# Altium schematic symbol library Transistors.SchLib: 30 symbols
Pins are listed as number, name and electrical type; pins without a type are passive.

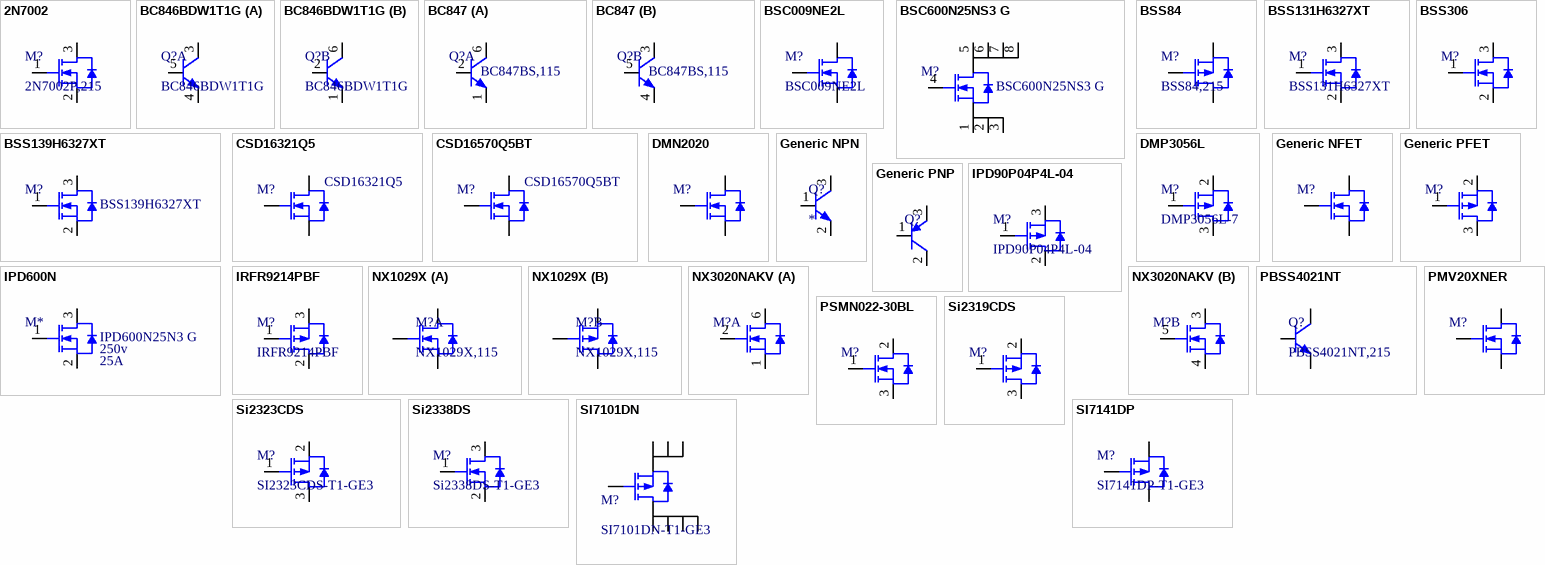
[diagram p0: symbols 2N7002 to SI7141DP]

## 2N7002
designator M?, comment 2N7002P,215
NFET_SINGLE_360mA_60V; LOAD: NL; MFG: NXP; VDS_MAX: 60v; I_MAX: 360mA; VGS_MAX: 20v; P_MAX: *; RDS_ON: *; MFG_PN: 2N7002P,215
footprint SOT23-3M
pins: 1 GATE, 2 SOURCE, 3 DRAIN

## BC846BDW1T1G
designator Q?
BJT, Dual NPN, 65v, 100mA; MFG: ON Semiconductor; VCBO: 80v; MFG_PN: BC846BDW1T1G; CURRENT: 100mA; VCEO: 65V
footprint SC70
part A pins: 3 E1, 4 C1, 5 B1
part B pins: 1 C2, 2 B2, 6 E2

## BC847
designator Q?, comment BC847BS,115
NPN_DUAL_100mA; MFG: NXP; Imax: 100mA; VCE_MAX: 45v; Load: NL; MFG_PN: BC847BS,115
footprint SOT363
part A pins: 1 C, 2 B, 6 E
part B pins: 3 E, 4 C, 5 B

## BSC009NE2L
designator M?
NFET_SINGLE_100A_25v; LOAD: NL; MFG: INFINEON; VDS_MAX: 25v; I_MAX: 100A; VGS_MAX: 16; P_MAX: 74W; RDS_ON: 1.25m; MFG_PN: BSC009NE2LS5ATMA1
footprint PowerPAK-SO8
pins: 1 SOURCE, 2 SOURCE, 3 SOURCE, 4 GATE, 5 DRAIN, 6 DRAIN, 7 DRAIN, 8 DRAIN

## BSC600N25NS3 G
designator M?
NFET_SINGLE_25A_250V; LOAD: NL; MFG: Infineon; VDS_MAX: 250v; I_MAX: 2.3A; VGS_MAX: 20v; GATE_CHARGE: 10nC; MFG_PN: BSC600N25NS3 G
footprint PowerPAK-SO8
pins: 1 SOURCE, 2 SOURCE, 3 SOURCE, 4 GATE, 5 DRAIN, 6 DRAIN, 7 DRAIN, 8 DRAIN

## BSS84
designator M?, comment BSS84,215
PFET_SINGLE_130mA_50v; LOAD: NL; MFG: NXP; VDS_MAX: 50v; I_MAX: 130mA; VGS_MAX: 20v; P_MAX: 250mW; RDS_ON: 6R; MFG_PN: BSS84,215
footprint SOT23-3M
pins: 1 GATE, 2 DRAIN, 3 SOURCE

## BSS131H6327XT
designator M?
NFET_SINGLE_100mA_240v; MFG: INFINEON; VDS: 240v; VGS: 20v; RDS: 14R; CURRENT: 0.1A; MFG_PN: BSS131H6327XT
footprint SOT23-3 REFLOW
pins: 1 GATE, 2 SOURCE, 3 DRAIN

## BSS139H6327XT
designator M?
NFET_SINGLE_30mA_250V; LOAD: NL; MFG: Infineon; VDS_MAX: 250v; I_MAX: 30mA; VGS_MAX: 20v; P_MAX: 360mW; RDS_ON: 14R; MFG_PN: BSS139H6327XT
footprint SOT23-3M
pins: 1 GATE, 2 SOURCE, 3 DRAIN

## BSS306
designator M?, comment BSS306NH6327XT  (value not drawn)
NFET_SINGLE_2.3A; LOAD: NL; MFG: Infineon; VDS_MAX: 30v; I_MAX: 2.3A; VGS_MAX: 20v; MFG_PN: BSS306NH6327XT
footprint SOT23-3M
pins: 1 GATE, 2 SOURCE, 3 DRAIN

## CSD16321Q5
designator M?
NFET_SINGLE_31A_25v; LOAD: NL; MFG: TI; VDS_MAX: 25v; I_MAX: 31A; VGS_MAX: 10v; P_MAX: 3.1W; RDS_ON: 2.1m; MFG_PN: CSD16321Q5
footprint VSON-8
pins: 1 S, 2 S, 3 S, 4 G, 5 D, 6 D, 7 D, 8 D

## CSD16570Q5BT
designator M?
NFET_SINGLE_456A_25v; LOAD: NL; MFG: TI; VDS_MAX: 25v; I_MAX: 456A; VGS_MAX: 20; P_MAX: 195W; RDS_ON: 590u; MFG_PN: CSD16570Q5BT
footprint VSON-8
pins: 1, 2, 3, 4, 5, 6, 7, 8

## DMN2020
designator M?, comment DMN2020LSN-7  (value not drawn)
NFET_SINGLE_6.9A_20v; LOAD: NL; MFG: DIODES INC; VDS_MAX: 20v; I_MAX: 6.9A; VGS_MAX: 12v; P_MAX: *; RDS_ON: *; MFG_PN: DMN2020LSN-7; AUTOMOTIVE: AEC-Q101; HelpURL: C:\Users\rharvey\Documents\Master Altium Library\Datasheets\DMN2020_NFET_DIODES INC.pdf
footprint SOT23-3M
pins: 1 GATE, 2 SOURCE, 3 DRAIN

## DMP3056L
designator M?, comment DMP3056L-7
PFET_SINGLE_4.3A_30v; LOAD: NL; MFG: DIODES_INC; VDS_MAX: -30v; I_MAX: -4.3A; VGS_MAX: 25v; P_MAX: 1.38W; RDS_ON: 35m; VGS_TH: -1v; MFG_PN: DMP3056L-7
footprint SOT23-3M
pins: 1 GATE, 2 DRAIN, 3 SOURCE

## Generic NFET
designator M?
LOAD: NL; VDS_MAX: *; I_MAX: *; VGS_MAX: *; P_MAX: *; RDS_ON: *
pins: 1 GATE, 2 SOURCE, 3 DRAIN

## Generic NPN
designator Q?
LOAD: NL; MFG: *; VCE: *; IMAX: *; MFG_PN: *
pins: 1 B, 2 C, 3 E

## Generic PFET
designator M?
LOAD: NL; VDS_MAX: *; I_MAX: *; VGS_MAX: *; P_MAX: *; RDS_ON: *
pins: 1 GATE, 2 DRAIN, 3 SOURCE

## Generic PNP
designator Q?  (value not drawn)
LOAD: NL; MFG: *; VCE_MAX: *; I_MAX: *; MFG_PN: *
pins: 1 B, 2 C, 3 E

## IPD90P04P4L-04
designator M?
PFET_SINGLE_90A_40v; LOAD: NL; MFG: INFINEON; VDS_MAX: -40v; I_MAX: 90A; VGS_MAX: 16v; P_MAX: 125W; RDS_ON: 4.3m; VGS_TH: -2.2v; Q_GATE: 176nC; MFG_PN: IPD90P04P4L-04
footprint DPAK2
pins: 1 GATE, 2 DRAIN, 3 SOURCE

## IPD600N
designator M*  VDS_MAX: 250v  I_MAX: 25A  MFG1_PN: IPD600N25N3 G  (hidden comment: *)
NFET_SINGLE_25A_136W; LOAD: NL; MFG1: Infineon; VGS_MAX: 20v; P_MAX: 136W; RDS_ON: 60m
footprint DPAK2
pins: 1 GATE, 2 SOURCE, 3 DRAIN

## IRFR9214PBF
designator M?
PFET_SINGLE_2.7A_50W_250V; LOAD: NL; MFG: Vishay; VDS_MAX: -250V; I_MAX: 2.7A; VGS_MAX: 20V; P_MAX: 50W; RDS_ON: 3R; MFG_PN: IRFR9214PBF
footprint DPAK2
pins: 1 GATE, 2 DRAIN, 3 SOURCE

## NX1029X
designator M?, comment NX1029X,115
Complementary P/NFET; MFG: NXP; VDS_P: -50v; VDS_N: 60v; VGS: 20v; ID_P: -170mA; ID_N: 330mA; MFG_PN: NX1029X,115
footprint SOT666-6N (NXP PMDT670UPE)
part A pins: 1 S1, 2 G1, 6 D1
part B pins: 3 D2, 4 S2, 5 G2

## NX3020NAKV
designator M?, comment NX3020NAKV,115  (value not drawn)
NFET_DUAL_200mA_30v; LOAD: NL; MFG: NXP; VDS_MAX: 30v; I_MAX: 200mA; P_MAX: 1.1W; RDS_ON: 2.7; VGS_MAX: *; MFG_PN: NX3020NAKV,115
footprint SOT666-6N (NXP PMDT670UPE)
part A pins: 1 S1, 2 G1, 6 D1
part B pins: 3 D2, 4 S2, 5 G2

## PBSS4021NT
designator Q?, comment PBSS4021NT,215
NPN_SINGLE_8A_20v; MFG: NXP; VCE_MAX: 20v; IMAX: 8A; LOAD: NL; MFG_PN: PBSS4021NT,215
footprint SOT23-3M
pins: 1 B, 2 C, 3 E

## PMV20XNER
designator M?  (value not drawn)
NFET_SINGLE_7.2A_30v; LOAD: NL; MFG: NXP; VDS_MAX: 30v; I_MAX: 7.2A; VGS_MAX: 12v; P_MAX: 1.2W; RDS_ON: 23m; MFG_PN: PMV20XNER
footprint SOT23-3M
pins: 1 GATE, 2 SOURCE, 3 DRAIN

## PSMN022-30BL
designator M?  (value not drawn)
NFET_SINGLE_30A_41W; LOAD: NL; MFG: NXP; VDS_MAX: 30v; I_MAX: 30A; VGS_MAX: 20v; P_MAX: 41W; RDS_ON: 22.6m; MFG_PN: PSMN022-30BL
footprint DPAK2
pins: 1 GATE, 2 DRAIN, 3 SOURCE

## Si2319CDS
designator M?, comment Si2319CDS-T1-GE3  (value not drawn)
PFET_SINGLE_4.4A_2.5W; LOAD: NL; MFG: Vishay; VDS_MAX: -40v; I_MAX: -4.4A; P_MAX: 2.5W; RDS_ON: 77m; VGS_MAX: *; MFG_PN: Si2319CDS-T1-GE3
footprint SOT23-3M
pins: 1 GATE, 2 DRAIN, 3 SOURCE

## Si2323CDS
designator M?, comment SI2323CDS-T1-GE3
Small Package, Low-RDSOn PFET; LOAD: NL; MFG: VISHAY; VDS_MAX: -20v; I_MAX: -6; VGS_MAX: +/-8v; P_MAX: 2.5W; RDS_ON: 39m; VGS_TH: -1v; MFG_PN: SI2323CDS-T1-GE3
footprint SOT23-3M
pins: 1 GATE, 2 DRAIN, 3 SOURCE

## Si2338DS
designator M?, comment Si2338DS-T1-GE3
NFET_SINGLE_6A_30V; LOAD: NL; MFG: VISHAY; VDS_MAX: 30v; I_MAX: 6A; VGS_MAX: 20v; RDS_ON: 23m; Q_GATE: 8.2nC; P_MAX: *; MFG_PN: Si2338DS-T1-GE3
footprint SOT23-3M
pins: 1 GATE, 2 SOURCE, 3 DRAIN

## SI7101DN
designator M?, comment SI7101DN-T1-GE3
PFET_SINGLE_35A_30v; MFG: VISHAY; LOAD: NL; CURRENT: 35A; VGS_MAX: 20V; VDS_MAX: 30V; RDS: 7.2m; POWER: 52W; MFG_PN: SI7101DN-T1-GE3
footprint PowerPAK-1212-8
pins: 1, 2, 3, 4, 5, 6, 7, 8

## SI7141DP
designator M?, comment SI7141DP-T1-GE3
PFET_SINGLE_60A_20V; LOAD: NL; MFG: VISHAY; VDS_MAX: 20V; I_MAX: -60A; P_MAX: 104W; RDS_ON: 1.9m; VGS_MAX: 20V; MFG_PN: SI7141DP-T1-GE3
footprint PowerPAK-SO8
pins: 1, 2, 3, 4, 5, 6, 7, 8